# Altium footprint library DIOB_DBLS106G.PcbLib: 1 footprints
Each footprint in its own frame and in the unit in brackets; x right, y up, seen from the top. Pads: shape width x height; smd on the part's side, far side on the other; paste and mask are expansions set on the pad; w line width, h text height; cw(c..) or ccw(c..) is an arc to the next point about the centre after c.
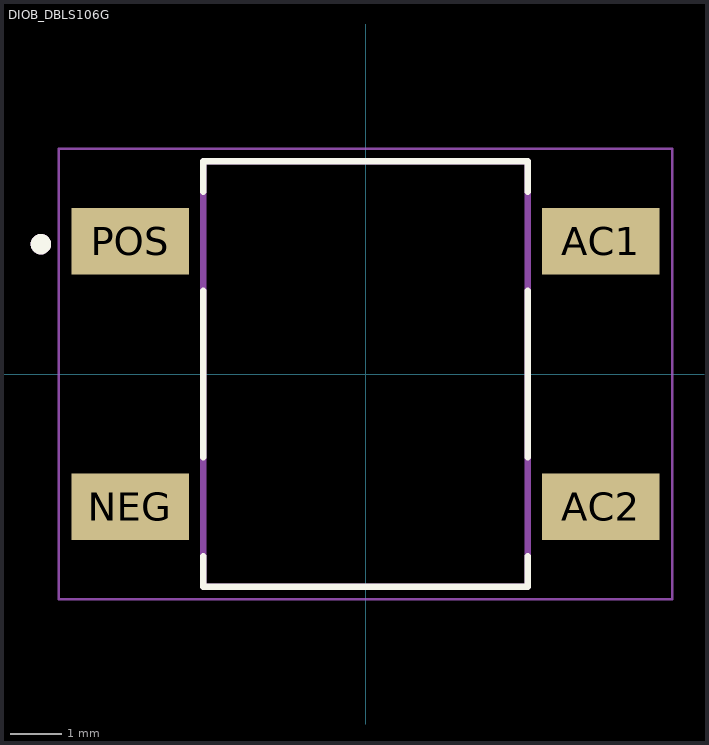
[diagram p0: the footprint, top view; thin cyan lines are the x and y axes]

## DIOB_DBLS106G [mm]
height 2.93
pads (4):
  rect 2.3x1.3 smd: AC1(4.6,2.6) AC2(4.6,-2.6) NEG(-4.6,-2.6) POS(-4.6,2.6)
Top Overlay:
  circle w0.2: c-6.35,2.54 r0.1
  lines w0.127: -3.175,-3.57 -3.175,-4.16 3.175,-4.16 3.175,-3.57 ; -3.175,-1.63 -3.175,1.63 ; -3.175,3.57 -3.175,4.16 3.175,4.16 3.175,3.57 ; 3.175,-1.63 3.175,1.63
Mechanical 13:
  circle w0.2: c-6.35,2.54 r0.1
  lines w0.127: -3.175,-4.16 -3.175,4.16 3.175,4.16 3.175,-4.16 -3.175,-4.16
Mechanical 15:
  lines w0.05: -6,-4.41 -6,4.41 6,4.41 6,-4.41 -6,-4.41
3D body "step_temp.STEP": height 2.93, standoff 0, extent -5.025,-4.16 5.025,4.16